# EAGLE library part I__4583 (library ..SMD)
Dual SCHMITT TRIGGER
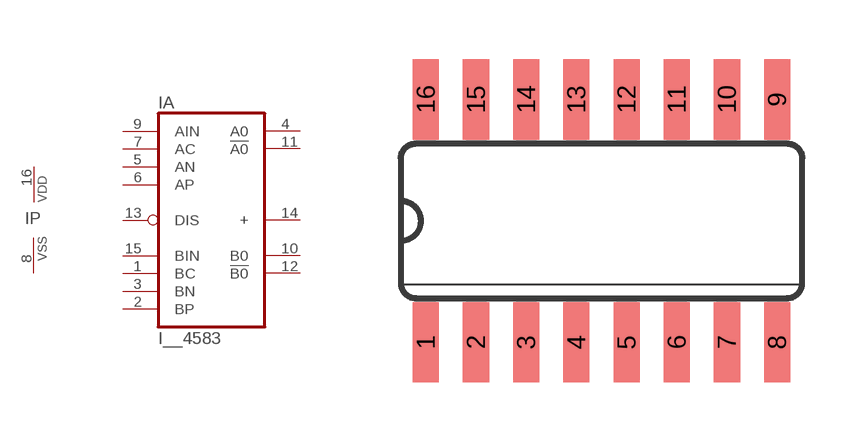
[diagram p143: symbol with the pads of SO16; footprint SO16]

Designator prefix I; gates A=4583 P=PWRN

## I__4583D  [SO16]
1  A:BC  in
2  A:BP  in
3  A:BN  in
4  A:A0  out
5  A:AN  in
6  A:AP  in
7  A:AC  in
8  P:VSS  pwr
9  A:AIN  in
10  A:B0  out
11  A:!A0  out
12  A:!B0  out
13  A:DIS  in
14  A:+  out
15  A:BIN  in
16  P:VDD  pwr

## Footprint SO16 (pad centres in mm)
Small Outline Package 16
smd 0.66 x 2.032: 1 -4.445,-3.073; 2 -3.175,-3.073; 3 -1.905,-3.073; 4 -0.635,-3.073; 5 0.635,-3.073; 6 1.905,-3.073; 7 3.175,-3.073; 8 4.445,-3.073; 9 4.445,3.073; 10 3.175,3.073; 11 1.905,3.073; 12 0.635,3.073; 13 -0.635,3.073; 14 -1.905,3.073; 15 -3.175,3.073; 16 -4.445,3.073